# Altium schematic symbol library Linux-Capable-Business-Card.SchLib: 29 symbols
Pins are listed as number, name and electrical type; pins without a type are passive.

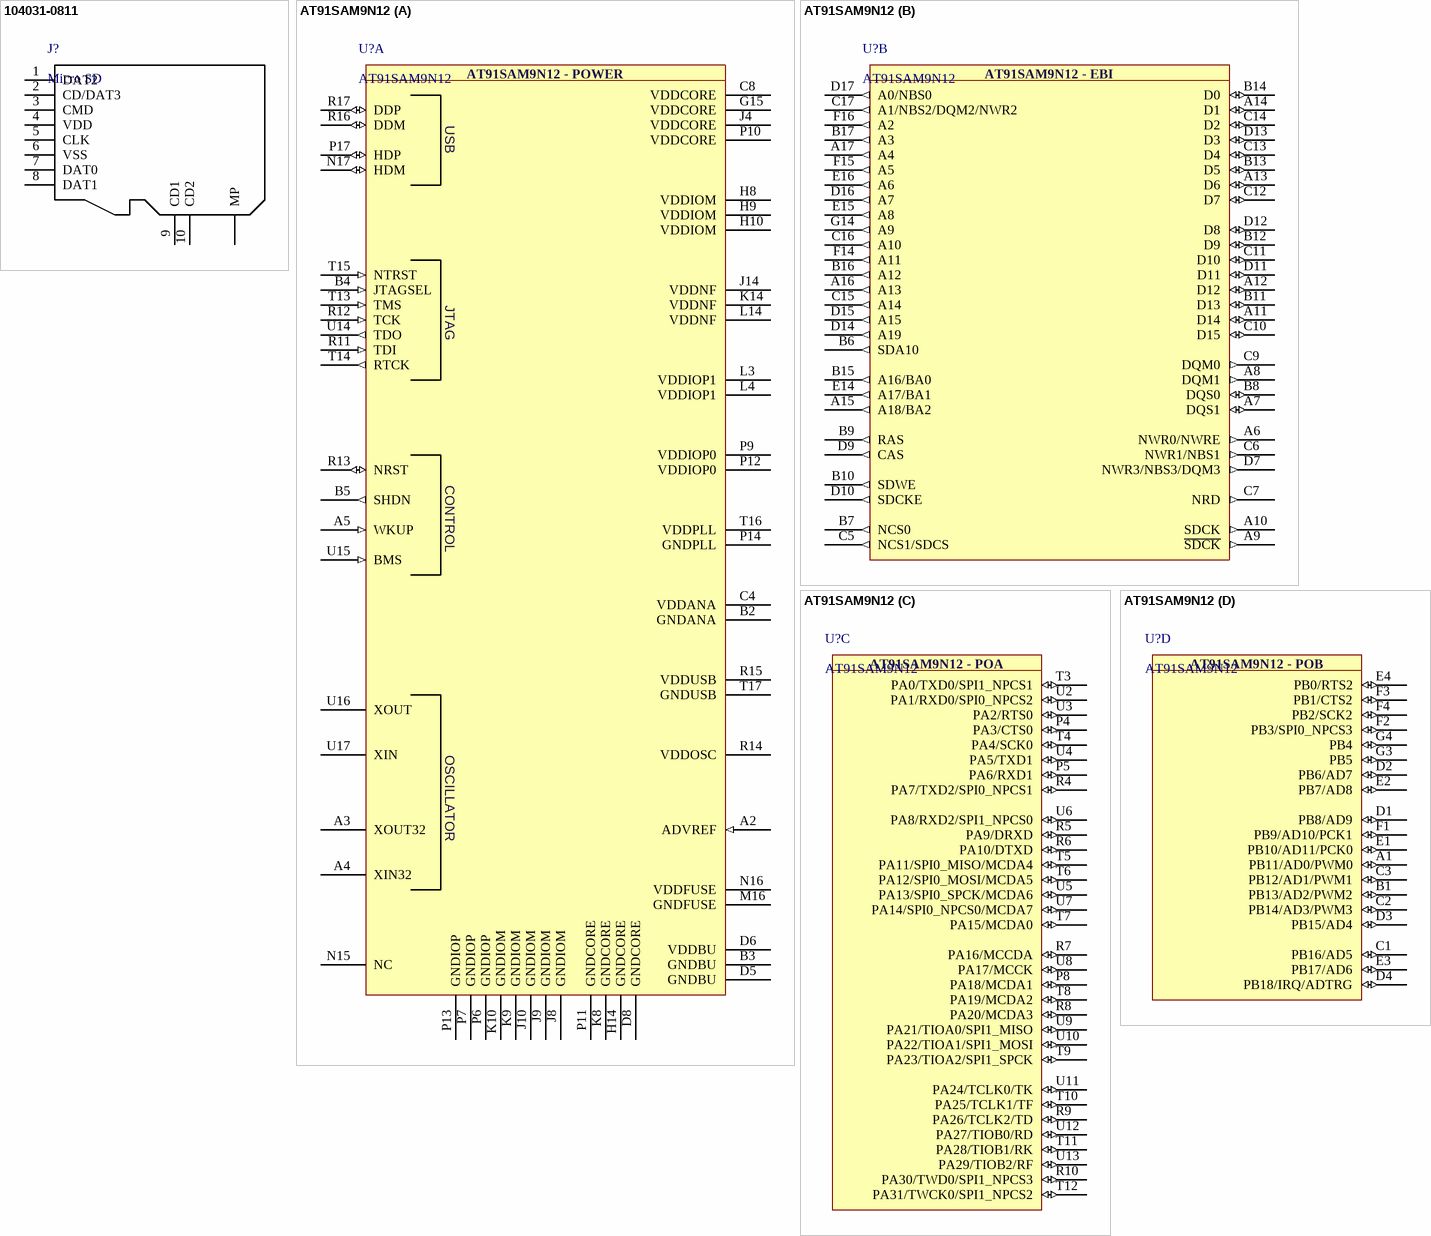
[diagram p0: symbols 104031-0811 to AT91SAM9N12]

## 104031-0811
designator J?, comment Micro SD
Memory Card Connectors MICRO SD PUSH-PULL SMT 1.42MM HEIGHT; Supplier 1: Mouser; Supplier Part Number 1: 538-104031-0811
footprint 104031-0811 (Memory Card Connectors MICRO SD PUSH-PULL SMT 1.42MM HEIGHT)
pins: 1 DAT2, 2 CD/DAT3, 3 CMD, 4 VDD, 5 CLK, 6 VSS, 7 DAT0, 8 DAT1, 9 CD1, 10 CD2, MP

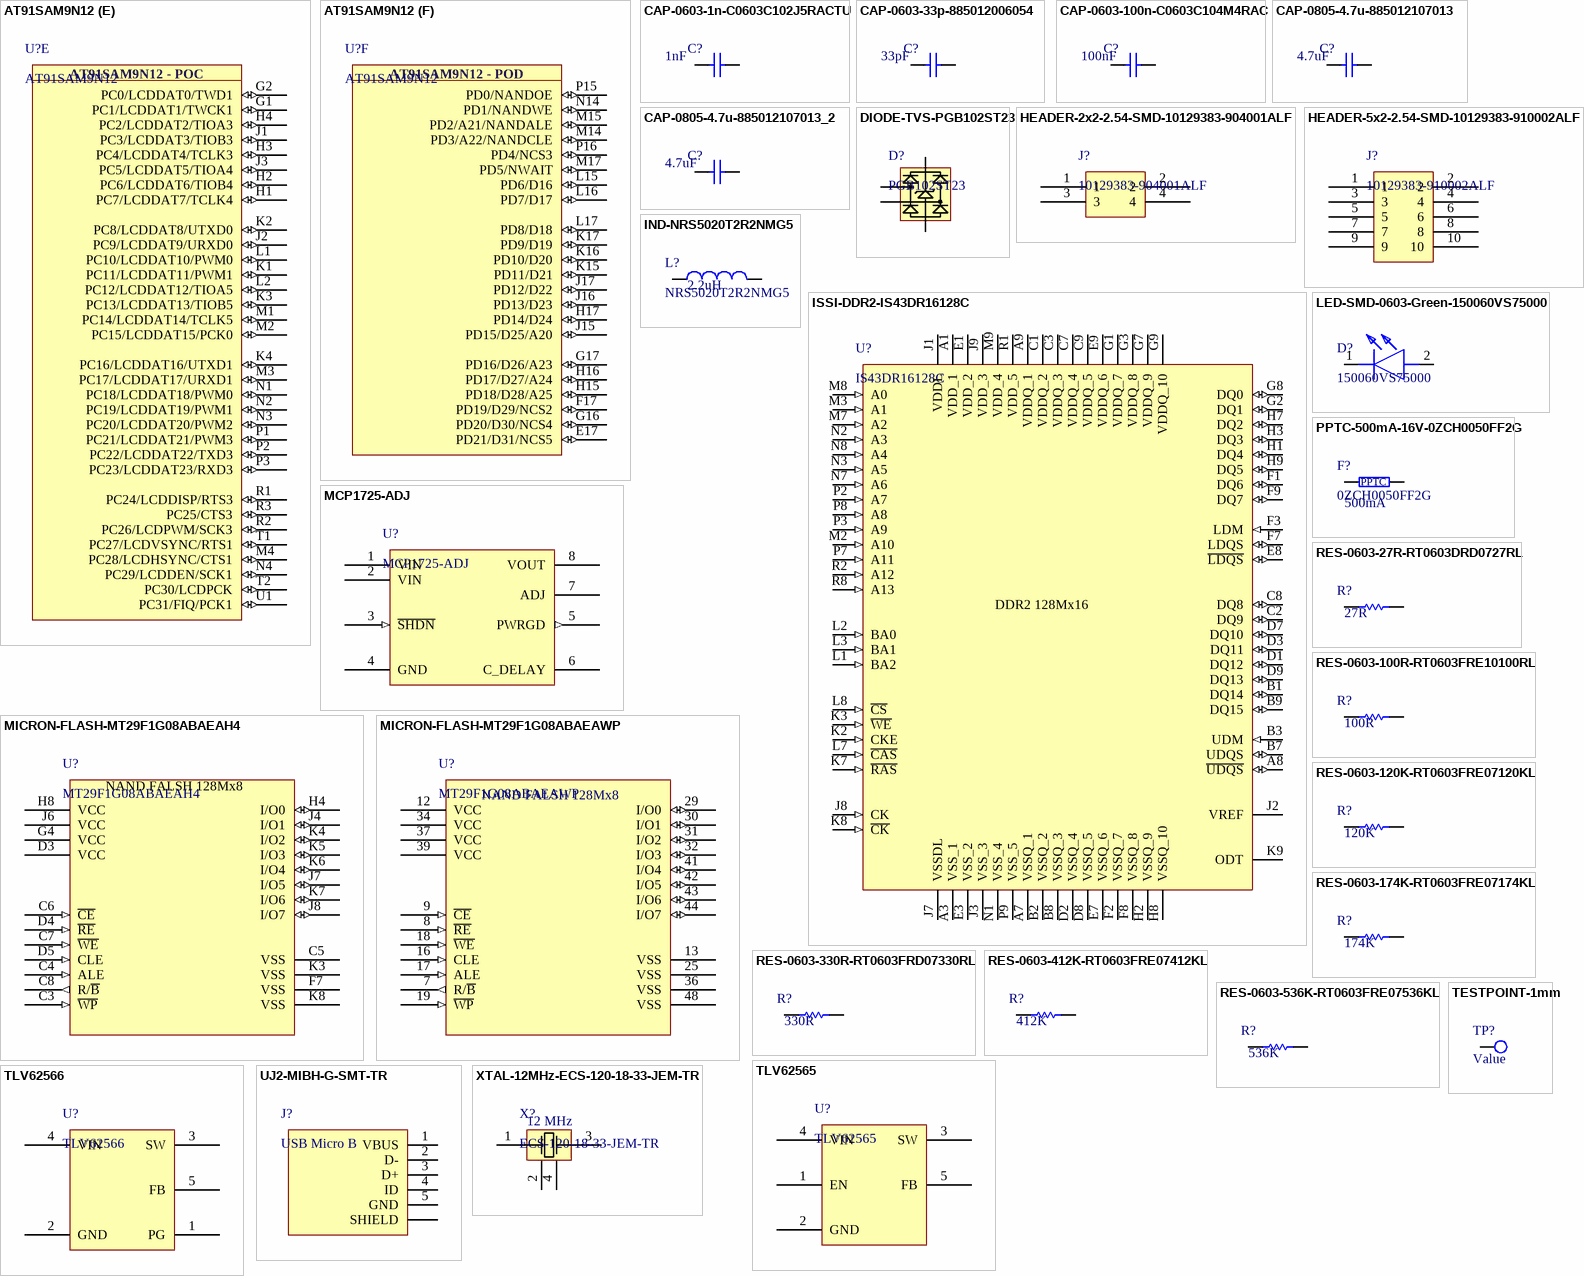
[diagram p1: symbols AT91SAM9N12 to XTAL-12MHz-ECS-120-18-33-JEM-TR]

## AT91SAM9N12
designator U?
MPU ARM926EJ-S 400MHz; Supplier 1: Mouser; Supplier Part Number 1: 556-AT91SAM9N12-CU
footprint BGA0.8P17X17_217_15X15
part A pins: A2 ADVREF (in), A3 XOUT32, A4 XIN32, A5 WKUP (in), B2 GNDANA (power), B3 GNDBU (power), B4 JTAGSEL (in), B5 SHDN (out), C4 VDDANA (power), C8 VDDCORE (power), D5 GNDBU (power), D6 VDDBU (power), D8 GNDCORE (power), G15 VDDCORE (power), H8 VDDIOM (power), H9 VDDIOM (power), H10 VDDIOM (power), H14 GNDCORE (power), J4 VDDCORE (power), J8 GNDIOM (power), J9 GNDIOM (power), J10 GNDIOM (power), J14 VDDNF (power), K8 GNDCORE (power), K9 GNDIOM (power), K10 GNDIOM (power), K14 VDDNF (power), L3 VDDIOP1 (power), L4 VDDIOP1 (power), L14 VDDNF (power), M16 GNDFUSE (power), N15 NC, N16 VDDFUSE (power), N17 HDM (io), P6 GNDIOP (power), P7 GNDIOP (power), P9 VDDIOP0 (power), P10 VDDCORE (power), P11 GNDCORE (power), P12 VDDIOP0 (power), P13 GNDIOP (power), P14 GNDPLL (power), P17 HDP (io), R11 TDI (in), R12 TCK (in), R13 NRST (io), R14 VDDOSC (power), R15 VDDUSB (power), R16 DDM (io), R17 DDP (io), T13 TMS (in), T14 RTCK (out), T15 NTRST (in), T16 VDDPLL (power), T17 GNDUSB (power), U14 TDO (out), U15 BMS (in), U16 XOUT, U17 XIN
part B pins: A6 NWR0/NWRE (out), A7 DQS1 (io), A8 DQM1 (out), A9 ~{SDCK} (out), A10 SDCK (out), A11 D14 (io), A12 D12 (io), A13 D6 (io), A14 D1 (io), A15 A18/BA2 (out), A16 A13 (out), A17 A4 (out), B6 SDA10 (out), B7 NCS0 (out), B8 DQS0 (io), B9 RAS (out), B10 SDWE (out), B11 D13 (io), B12 D9 (io), B13 D5 (io), B14 D0 (io), B15 A16/BA0 (out), B16 A12 (out), B17 A3 (out), C5 NCS1/SDCS (out), C6 NWR1/NBS1 (out), C7 NRD (out), C9 DQM0 (out), C10 D15 (io), C11 D10 (io), C12 D7 (io), C13 D4 (io), C14 D2 (io), C15 A14 (out), C16 A10 (out), C17 A1/NBS2/DQM2/NWR2 (out), D7 NWR3/NBS3/DQM3 (out), D9 CAS (out), D10 SDCKE (out), D11 (io), D12 D8 (io), D13 D3 (io), D14 A19 (out), D15 A15 (out), D16 A7 (out), D17 A0/NBS0 (out), E14 A17/BA1 (out), E15 A8 (out), E16 A6 (out), F14 A11 (out), F15 A5 (out), F16 A2 (out), G14 A9 (out)
part C pins: P4 PA3/CTS0 (io), P5 PA6/RXD1 (io), P8 PA18/MCDA1 (io), R4 PA7/TXD2/SPI0_NPCS1 (io), R5 PA9/DRXD (io), R6 PA10/DTXD (io), R7 PA16/MCCDA (io), R8 PA20/MCDA3 (io), R9 PA26/TCLK2/TD (io), R10 PA30/TWD0/SPI1_NPCS3 (io), T3 PA0/TXD0/SPI1_NPCS1 (io), T4 PA4/SCK0 (io), T5 PA11/SPI0_MISO/MCDA4 (io), T6 PA12/SPI0_MOSI/MCDA5 (io), T7 PA15/MCDA0 (io), T8 PA19/MCDA2 (io), T9 PA23/TIOA2/SPI1_SPCK (io), T10 PA25/TCLK1/TF (io), T11 PA28/TIOB1/RK (io), T12 PA31/TWCK0/SPI1_NPCS2 (io), U2 PA1/RXD0/SPI0_NPCS2 (io), U3 PA2/RTS0 (io), U4 PA5/TXD1 (io), U5 PA13/SPI0_SPCK/MCDA6 (io), U6 PA8/RXD2/SPI1_NPCS0 (io), U7 PA14/SPI0_NPCS0/MCDA7 (io), U8 PA17/MCCK (io), U9 PA21/TIOA0/SPI1_MISO (io), U10 PA22/TIOA1/SPI1_MOSI (io), U11 PA24/TCLK0/TK (io), U12 PA27/TIOB0/RD (io), U13 PA29/TIOB2/RF (io)
part D pins: A1 PB11/AD0/PWM0 (io), B1 PB13/AD2/PWM2 (io), C1 PB16/AD5 (io), C2 PB14/AD3/PWM3 (io), C3 PB12/AD1/PWM1 (io), D1 PB8/AD9 (io), D2 PB6/AD7 (io), D3 PB15/AD4 (io), D4 PB18/IRQ/ADTRG (io), E1 PB10/AD11/PCK0 (io), E2 PB7/AD8 (io), E3 PB17/AD6 (io), E4 PB0/RTS2 (io), F1 PB9/AD10/PCK1 (io), F2 PB3/SPI0_NPCS3 (io), F3 PB1/CTS2 (io), F4 PB2/SCK2 (io), G3 PB5 (io), G4 PB4 (io)
part E pins: G1 PC1/LCDDAT1/TWCK1 (io), G2 PC0/LCDDAT0/TWD1 (io), H1 PC7/LCDDAT7/TCLK4 (io), H2 PC6/LCDDAT6/TIOB4 (io), H3 PC4/LCDDAT4/TCLK3 (io), H4 PC2/LCDDAT2/TIOA3 (io), J1 PC3/LCDDAT3/TIOB3 (io), J2 PC9/LCDDAT9/URXD0 (io), J3 PC5/LCDDAT5/TIOA4 (io), K1 PC11/LCDDAT11/PWM1 (io), K2 PC8/LCDDAT8/UTXD0 (io), K3 PC13/LCDDAT13/TIOB5 (io), K4 PC16/LCDDAT16/UTXD1 (io), L1 PC10/LCDDAT10/PWM0 (io), L2 PC12/LCDDAT12/TIOA5 (io), M1 PC14/LCDDAT14/TCLK5 (io), M2 PC15/LCDDAT15/PCK0 (io), M3 PC17/LCDDAT17/URXD1 (io), M4 PC28/LCDHSYNC/CTS1 (io), N1 PC18/LCDDAT18/PWM0 (io), N2 PC19/LCDDAT19/PWM1 (io), N3 PC20/LCDDAT20/PWM2 (io), N4 PC29/LCDDEN/SCK1 (io), P1 PC21/LCDDAT21/PWM3 (io), P2 PC22/LCDDAT22/TXD3 (io), P3 PC23/LCDDAT23/RXD3 (io), R1 PC24/LCDDISP/RTS3 (io), R2 PC26/LCDPWM/SCK3 (io), R3 PC25/CTS3 (io), T1 PC27/LCDVSYNC/RTS1 (io), T2 PC30/LCDPCK (io), U1 PC31/FIQ/PCK1 (io)
part F pins: E17 PD21/D31/NCS5 (io), F17 PD19/D29/NCS2 (io), G16 PD20/D30/NCS4 (io), G17 PD16/D26/A23 (io), H15 PD18/D28/A25 (io), H16 PD17/D27/A24 (io), H17 PD14/D24 (io), J15 PD15/D25/A20 (io), J16 PD13/D23 (io), J17 PD12/D22 (io), K15 PD11/D21 (io), K16 PD10/D20 (io), K17 PD9/D19 (io), L15 PD6/D16 (io), L16 PD7/D17 (io), L17 PD8/D18 (io), M14 PD3/A22/NANDCLE (io), M15 PD2/A21/NANDALE (io), M17 PD5/NWAIT (io), N14 PD1/NANDWE (io), P15 PD0/NANDOE (io), P16 PD4/NCS3 (io)
part A text: AT91SAM9N12 - POWER; USB; JTAG; CONTROL; OSCILLATOR
part B text: AT91SAM9N12 - EBI
part C text: AT91SAM9N12 - POA
part D text: AT91SAM9N12 - POB
part E text: AT91SAM9N12 - POC
part F text: AT91SAM9N12 - POD

## CAP-0603-1n-C0603C102J5RACTU
designator C?, comment value 1nF  (hidden comment: C0603C102J5RACTU)
Multilayer Ceramic Capacitors MLCC - SMD/SMT 50V 1000pF X7R 0603 5%; Manufacturer: KEMET; Voltage Rating DC: 50 VDC; Supplier 1: Mouser; Supplier Part Number 1: 80-C0603C102J5R
footprint CAP-0603
pins: 1, 2

## CAP-0603-33p-885012006054
designator C?, comment value 33pF  (hidden comment: 885012006054)
Multilayer Ceramic Capacitors MLCC - SMD/SMT WCAP-CSGP 33pF 0603 5% 50V MLCC; Manufacturer: Wurth Elektronik; Voltage Rating DC: 50 VDC; Supplier 1: Mouser; Supplier Part Number 1: 710-885012006054
footprint CAP-0603
pins: 1, 2

## CAP-0603-100n-C0603C104M4RAC
designator C?, comment value 100nF  (hidden comment: C0603C104M4RAC)
Multilayer Ceramic Capacitors MLCC - SMD/SMT 16V 0.1uF X7R 0603 20%; Manufacturer: KEMET; Voltage Rating DC: 16 VDC; Supplier 1: Mouser; Supplier Part Number 1: 80-C0603C104M4RAC
footprint CAP-0603
pins: 1, 2

## CAP-0805-4.7u-885012107013
designator C?, comment value 4.7uF  (hidden comment: 885012107013)
Multilayer Ceramic Capacitors MLCC - SMD/SMT WCAP-CSGP 4.7uF 0805 20% 16V MLCC; Manufacturer: Wurth Elektronik; Voltage Rating DC: 16 VDC; Supplier 1: Mouser; Supplier Part Number 1: 710-885012107013
footprint CAP-0805
pins: 1, 2

## CAP-0805-4.7u-885012107013_2
designator C?, comment value 4.7uF  (hidden comment: 885012107013)
Multilayer Ceramic Capacitors MLCC - SMD/SMT WCAP-CSGP 4.7uF 0805 20% 16V MLCC; Manufacturer: Wurth Elektronik; Voltage Rating DC: 16 VDC; Supplier 1: Mouser; Supplier Part Number 1: 710-885012107013
footprint CAP-0805
pins: 1, 2

## DIODE-TVS-PGB102ST23
designator D?, comment PGB102ST23
ESD Suppressors / TVS Diodes 2 Ch TVS Diode Array 3.3V 6.0A 400mW; Supplier 1: Mouser; Supplier Part Number 1: 621-D1213A-02SM-7
footprint SOT23-5
pins: 2 Vn, 3 CH1, 4 CH2, 5 Vp

## HEADER-2x2-2.54-SMD-10129383-904001ALF
designator J?, comment 10129383-904001ALF
Headers & Wire Housings ECONOSTIK HEADER DR VT SMT 2X2; Supplier 1: Mouser; Supplier Part Number 1: 649-1012938390401ALF
footprint HEADER-2X2-2.54-SMD- 10129383
pins: 1, 2, 3, 4

## HEADER-5x2-2.54-SMD-10129383-910002ALF
designator J?, comment 10129383-910002ALF
Headers & Wire Housings ECONOSTIK HEADER DR VT SMT 2X5; Supplier 1: Mouser; Supplier Part Number 1: 649-1012938391002ALF
footprint HEADER-5X2-2.54-SMD- 10129383
pins: 1, 2, 3, 4, 5, 6, 7, 8, 9, 10

## IND-NRS5020T2R2NMG5
designator L?, comment NRS5020T2R2NMG5  value 2.2uH
Fixed Inductors 5020 2.2uH 42mOhms +/-30%Tol 2900mA; Supplier 1: Mouser; Supplier Part Number 1: 963-NRS5020T2R2NMGJ
footprint NRS5020-SMT-INDUCTOR
pins: 1, 2

## ISSI-DDR2-IS43DR16128C
designator U?, comment IS43DR16128C
256Mx8, 128Mx16 DDR2 DRAM; Supplier 1: Mouser; Supplier Part Number 1: 870-3DR16128C-25DBLI
footprint BGA0.8_DDR2_86_9X12.5
pins: A1 VDD_1 (power), A3 VSS_1 (power), A7 VSSQ_1 (power), A8 ~{UDQS} (io), A9 VDDQ_1 (power), B1 DQ14 (io), B2 VSSQ_2 (power), B3 UDM (in), B7 UDQS (io), B8 VSSQ_3 (power), B9 DQ15 (io), C1 VDDQ_2 (power), C2 DQ9 (io), C3 VDDQ_3 (power), C7 VDDQ_4 (power), C8 DQ8 (io), C9 VDDQ_5 (power), D1 DQ12 (io), D2 VSSQ_4 (power), D3 DQ11 (io), D7 DQ10 (io), D8 VSSQ_5 (power), D9 DQ13 (io), E1 VDD_2 (power), E3 VSS_2 (power), E7 VSSQ_6 (power), E8 ~{LDQS} (io), E9 VDDQ_6 (power), F1 DQ6 (io), F2 VSSQ_7 (power), F3 LDM (in), F7 LDQS (io), F8 VSSQ_8 (power), F9 DQ7 (io), G1 VDDQ_7 (power), G2 DQ1 (io), G3 VDDQ_8 (power), G7 VDDQ_9 (power), G8 DQ0 (io), G9 VDDQ_10 (power), H1 DQ4 (io), H2 VSSQ_9 (power), H3 DQ3 (io), H7 DQ2 (io), H8 VSSQ_10 (power), H9 DQ5 (io), J1 VDDL (power), J2 VREF, J3 VSS_3 (power), J7 VSSDL (power), J8 CK (in), J9 VDD_3 (power), K2 CKE (in), K3 ~{WE} (in), K7 ~{RAS} (in), K8 ~{CK} (in), K9 ODT, L1 BA2 (in), L2 BA0 (in), L3 BA1 (in), L7 ~{CAS} (in), L8 ~{CS} (in), M2 A10 (in), M3 A1 (in), M7 A2 (in), M8 A0 (in), M9 VDD_4 (power), N1 VSS_4 (power), N2 A3 (in), N3 A5 (in), N7 A6 (in), N8 A4 (in), P2 A7 (in), P3 A9 (in), P7 A11 (in), P8 A8 (in), P9 VSS_5 (power), R1 VDD_5 (power), R2 A12 (in), R8 A13 (in)
text: DDR2 128Mx16

## LED-SMD-0603-Green-150060VS75000
designator D?, comment 150060VS75000
Standard LEDs - SMD WL-SMCW SMDMono TpVw Waterclr 0603 BrtGrn; Value: Green; Supplier 1: Mouser; Supplier Part Number 1: 710-150060VS75000
footprint LED-SMD-0603-1.6X0.8
pins: 1 K, 2 A

## MCP1725-ADJ
designator U?
500 mA, Low Voltage, Low Quiescent Current LDO Regulator; Supplier 1: Mouser; Supplier Part Number 1: 579-MCP1725-ADJE/SN
footprint SOIC-8_3.9X4.9
pins: 1 VIN (power), 2 VIN (power), 3 ~{SHDN} (in), 4 GND (power), 5 PWRGD (out), 6 C_DELAY, 7 ADJ, 8 VOUT (power)

## MICRON-FLASH-MT29F1G08ABAEAH4
designator U?, comment MT29F1G08ABAEAH4
NAND Flash SLC 1G 128MX8 VFBGA-63; Supplier 1: Mouser; Supplier Part Number 1: 340-139663-TRAY
footprint BGA0.8_FLASH_63_9X11
pins: C3 ~{WP} (in), C4 ALE (in), C5 VSS (power), C6 ~{CE} (in), C7 ~{WE} (in), C8 R/~{B} (out), D3 VCC (power), D4 ~{RE} (in), D5 CLE (in), F7 VSS (power), G4 VCC (power), H4 I/O0 (io), H8 VCC (power), J4 I/O1 (io), J6 VCC (power), J7 I/O5 (io), J8 I/O7 (io), K3 VSS (power), K4 I/O2 (io), K5 I/O3 (io), K6 I/O4 (io), K7 I/O6 (io), K8 VSS (power)
text: NAND FALSH 128Mx8

## MICRON-FLASH-MT29F1G08ABAEAWP
designator U?, comment MT29F1G08ABAEAWP
NAND Flash SLC 1G 128MX8 TSOP; Supplier 1: Mouser; Supplier Part Number 1: 340-139053-TRAY
footprint TSOP0.5-48-20X12
pins: 7 R/~{B} (out), 8 ~{RE} (in), 9 ~{CE} (in), 12 VCC (power), 13 VSS (power), 16 CLE (in), 17 ALE (in), 18 ~{WE} (in), 19 ~{WP} (in), 25 VSS (power), 29 I/O0 (io), 30 I/O1 (io), 31 I/O2 (io), 32 I/O3 (io), 34 VCC (power), 36 VSS (power), 37 VCC (power), 39 VCC (power), 41 I/O4 (io), 42 I/O5 (io), 43 I/O6 (io), 44 I/O7 (io), 48 VSS (power)
text: NAND FALSH 128Mx8

## PPTC-500mA-16V-0ZCH0050FF2G
designator F?, comment 0ZCH0050FF2G  value 500mA
Resettable Fuses - PPTC Fuse; Manufacturer: Bel; Maximum Voltage: 16V; Supplier 1: Mouser; Supplier Part Number 1: 530-0ZCH0050FF2G
footprint FUS-0ZCH-3x2.35
pins: 1, 2
text: PPTC

## RES-0603-27R-RT0603DRD0727RL
designator R?, comment value 27R  (hidden comment: RT0603DRD0727RL)
Thin Film Resistors - SMD 1/10W 27 ohm 1% 50ppm; Manufacturer: Yageo; Supplier 1: Mouser; Supplier Part Number 1: 603-RT0603DRD0727RL
footprint RES-0603
pins: 1, 2

## RES-0603-100R-RT0603FRE10100RL
designator R?, comment value 100R  (hidden comment: RT0603FRE10100RL)
Thin Film Resistors - SMD 100 ohm 1% 50 ppm Thin Film; Manufacturer: Yageo; Supplier 1: Mouser; Supplier Part Number 1: 603-RT0603FRE10100RL
footprint RES-0603
pins: 1, 2

## RES-0603-120K-RT0603FRE07120KL
designator R?, comment value 120K  (hidden comment: RT0603FRE07120KL)
Thin Film Resistors - SMD 1/10W 120K ohm 1% 50ppm; Manufacturer: Yageo; Supplier 1: Mouser; Supplier Part Number 1: 603-RT0603FRE07120KL
footprint RES-0603
pins: 1, 2

## RES-0603-174K-RT0603FRE07174KL
designator R?, comment value 174K  (hidden comment: RT0603FRE07174KL)
Thin Film Resistors - SMD 1/10W 174K ohm 1% 50ppm; Manufacturer: Yageo; Supplier 1: Mouser; Supplier Part Number 1: 603-RT0603FRE07174KL
footprint RES-0603
pins: 1, 2

## RES-0603-330R-RT0603FRD07330RL
designator R?, comment value 330R  (hidden comment: RT0603FRD07330RL)
Thin Film Resistors - SMD 1/10W 330 ohm 1% 50ppm; Manufacturer: Yageo; Supplier 1: Mouser; Supplier Part Number 1: 603-RT0603FRD07330RL
footprint RES-0603
pins: 1, 2

## RES-0603-412K-RT0603FRE07412KL
designator R?, comment value 412K  (hidden comment: RT0603FRE07412KL)
Thin Film Resistors - SMD 1/10W 412K ohm 1% 50ppm; Manufacturer: Yageo; Supplier 1: Mouser; Supplier Part Number 1: 603-RT0603FRE07412KL
footprint RES-0603
pins: 1, 2

## RES-0603-536K-RT0603FRE07536KL
designator R?, comment value 536K  (hidden comment: RT0603FRE07536KL)
Thin Film Resistors - SMD 1/10W 536K ohm 1% 50ppm; Manufacturer: Yageo; Supplier 1: Mouser; Supplier Part Number 1: 603-RT0603FRE07536KL
footprint RES-0603
pins: 1, 2

## TESTPOINT-1mm
designator TP?, comment Test Point 1mm  (value not drawn)  (no BOM)
Value: Value
footprint TESTPOINT-1mm
pins: 1

## TLV62565
designator U?
TLV6256x 1.5-A High Efficiency Step-Down Converters in SOT-23 5-Pin Package; Supplier 1: Mouser; Supplier Part Number 1: 595-TLV62565DBVR
footprint SOT23-5
pins: 1 EN, 2 GND (power), 3 SW, 4 VIN (power), 5 FB

## TLV62566
designator U?
TLV6256x 1.5-A High Efficiency Step-Down Converters in SOT-23 5-Pin Package; Supplier 1: Mouser; Supplier Part Number 1: 595-TLV62566DBVR
footprint SOT23-5
pins: 1 PG, 2 GND (power), 3 SW, 4 VIN (power), 5 FB

## UJ2-MIBH-G-SMT-TR
designator J?, comment USB Micro B
USB Connectors Micro B, USB 2.0, 1.8 A, Right Angle, Surface Mount (SMT), USB Receptacle; Supplier 1: Mouser; Supplier Part Number 1: 490-UJ2-MIBH-G-SMTTR
footprint UJ2-MIBH-G-SMT-TR
pins: 1 VBUS, 2 D-, 3 D+, 4 ID, 5 GND, SH SHIELD

## XTAL-12MHz-ECS-120-18-33-JEM-TR
designator X?, comment ECS-120-18-33-JEM-TR  value 12 MHz
Crystals 12MHz 20ppm 18pF -20C +70C; Supplier 1: Mouser; Supplier Part Number 1: 520-120-18-33-JEMT; Shunt Capacitance: 18 pF
footprint XTAL-ECX32-3.2X2.5
pins: 1, 2, 3, 4